# Altium footprint library cabinet13.PcbLib: 40 footprints (part 3 of 3)
Each footprint in its own frame and in the unit in brackets; x right, y up, seen from the top. Pads: shape width x height; smd on the part's side, far side on the other; paste and mask are expansions set on the pad; w line width, h text height; cw(c..) or ccw(c..) is an arc to the next point about the centre after c.
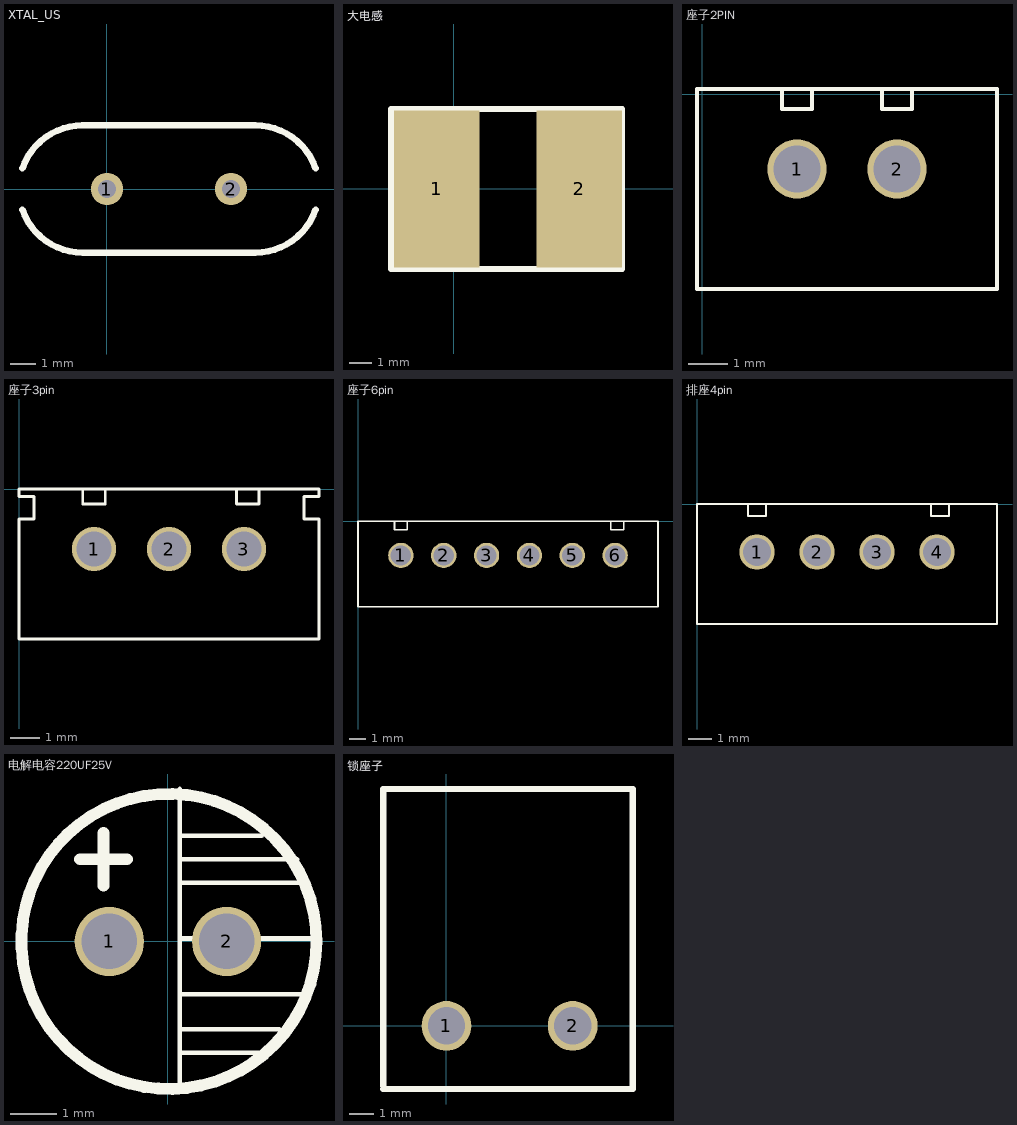
[diagram p2: the footprints below, top view; thin cyan lines are the x and y axes]

## XTAL_US [mil]
pads (2):
  round 50 hole 28: 1(0,0) 2(192.13,0)
Top Overlay:
  lines w10: -130.92,-31.85 ccw(c-37.79,0) -37.79,-98.42 ; -130.92,31.85 cw(c-37.79,0) -37.79,98.43 ; -38,98.42 229.92,98.43 cw(c229.92,0) 323.05,31.85 ; -37.8,-98.43 229.92,-98.42 ccw(c229.92,0) 323.05,-31.85

## 大电感 [mm]
pads (2):
  rect 3.8x7 smd: 1(-0.762,0) 2(5.588,0)
Top Overlay:
  lines w0.254: -2.794,-3.556 -2.794,3.556 7.493,3.556 7.493,-3.556 -2.794,-3.556

## 座子2PIN [mm]
pads (2):
  round 1.5 hole 1.2: 1(2.413,-1.905) 2(4.953,-1.905)
Top Overlay:
  lines w0.1: 2.032,0.127 2.032,-0.381 2.794,-0.381 2.794,0.127 ; 4.572,0.127 4.572,-0.381 5.334,-0.381 5.334,0.127 ; -0.127,-4.953 7.493,-4.953 7.493,0.127 -0.127,0.127 -0.127,-4.953

## 座子3pin [mm]
pads (3):
  round 1.5 hole 1.2: 1(2.54,-2.032) 2(5.08,-2.032) 3(7.62,-2.032)
Top Overlay:
  lines w0.1: 2.159,0 2.159,-0.508 2.921,-0.508 2.921,0 ; 7.366,0 7.366,-0.508 8.128,-0.508 8.128,0 ; 0,-5.08 10.16,-5.08 10.16,-1.016 9.652,-1.016 9.652,-0.254 10.16,-0.254 10.16,0 0,0 0,-0.254 0.508,-0.254 0.508,-1.016 0,-1.016 0,-5.08

## 座子6pin [mm]
pads (6):
  round 1.5 hole 1.2: 1(2.54,-2.032) 2(5.08,-2.032) 3(7.62,-2.032) 4(10.16,-2.032) 5(12.7,-2.032) 6(15.24,-2.032)
Top Overlay:
  lines w0.1: 2.159,0 2.159,-0.508 2.921,-0.508 2.921,0 ; 14.986,0 14.986,-0.508 15.748,-0.508 15.748,0 ; 0,-5.08 0,0 17.78,0 17.78,-5.08 0,-5.08

## 排座4pin [mm]
pads (4):
  round 1.5 hole 1.2: 1(2.54,-2.032) 2(5.08,-2.032) 3(7.62,-2.032) 4(10.16,-2.032)
Top Overlay:
  lines w0.1: 2.159,0 2.159,-0.508 2.921,-0.508 2.921,0 ; 9.906,0 9.906,-0.508 10.668,-0.508 10.668,0 ; 0,-5.08 0,0 12.7,0 12.7,-5.08 0,-5.08

## 电解电容220UF25V [mm]
pads (2):
  round 1.5 hole 1.2: 1(-1.27,0) 2(1.27,0)
Top Overlay:
  circle w0.254: c0.022,0 r3.197
  lines w0.1: 0.254,-3.175 0.254,3.302 ; 0.254,-2.413 2.159,-2.413 ; 0.254,-1.905 2.413,-1.905 ; 0.254,-1.143 2.921,-1.143 ; 0.254,0.064 3.155,0.064 3.219,0 ; 0.254,1.27 2.921,1.27 ; 0.254,1.778 2.794,1.778 ; 0.254,2.286 2.032,2.286
  lines w0.254: -1.905,1.778 -0.889,1.778 ; -1.397,1.206 -1.397,2.349

## 锁座子 [mm]
pads (2):
  round 2 hole 1.5: 1(0,0) 2(5.08,0)
Top Overlay:
  lines w0.254: -2.54,-2.54 7.493,-2.54 7.493,9.525 -2.54,9.525 -2.54,-2.413